# Altium footprint library Artemis_Plus.PcbLib: 25 footprints (part 1 of 2)
Each footprint in its own frame and in the unit in brackets; x right, y up, seen from the top. Pads: shape width x height; smd on the part's side, far side on the other; paste and mask are expansions set on the pad; w line width, h text height; cw(c..) or ccw(c..) is an arc to the next point about the centre after c.
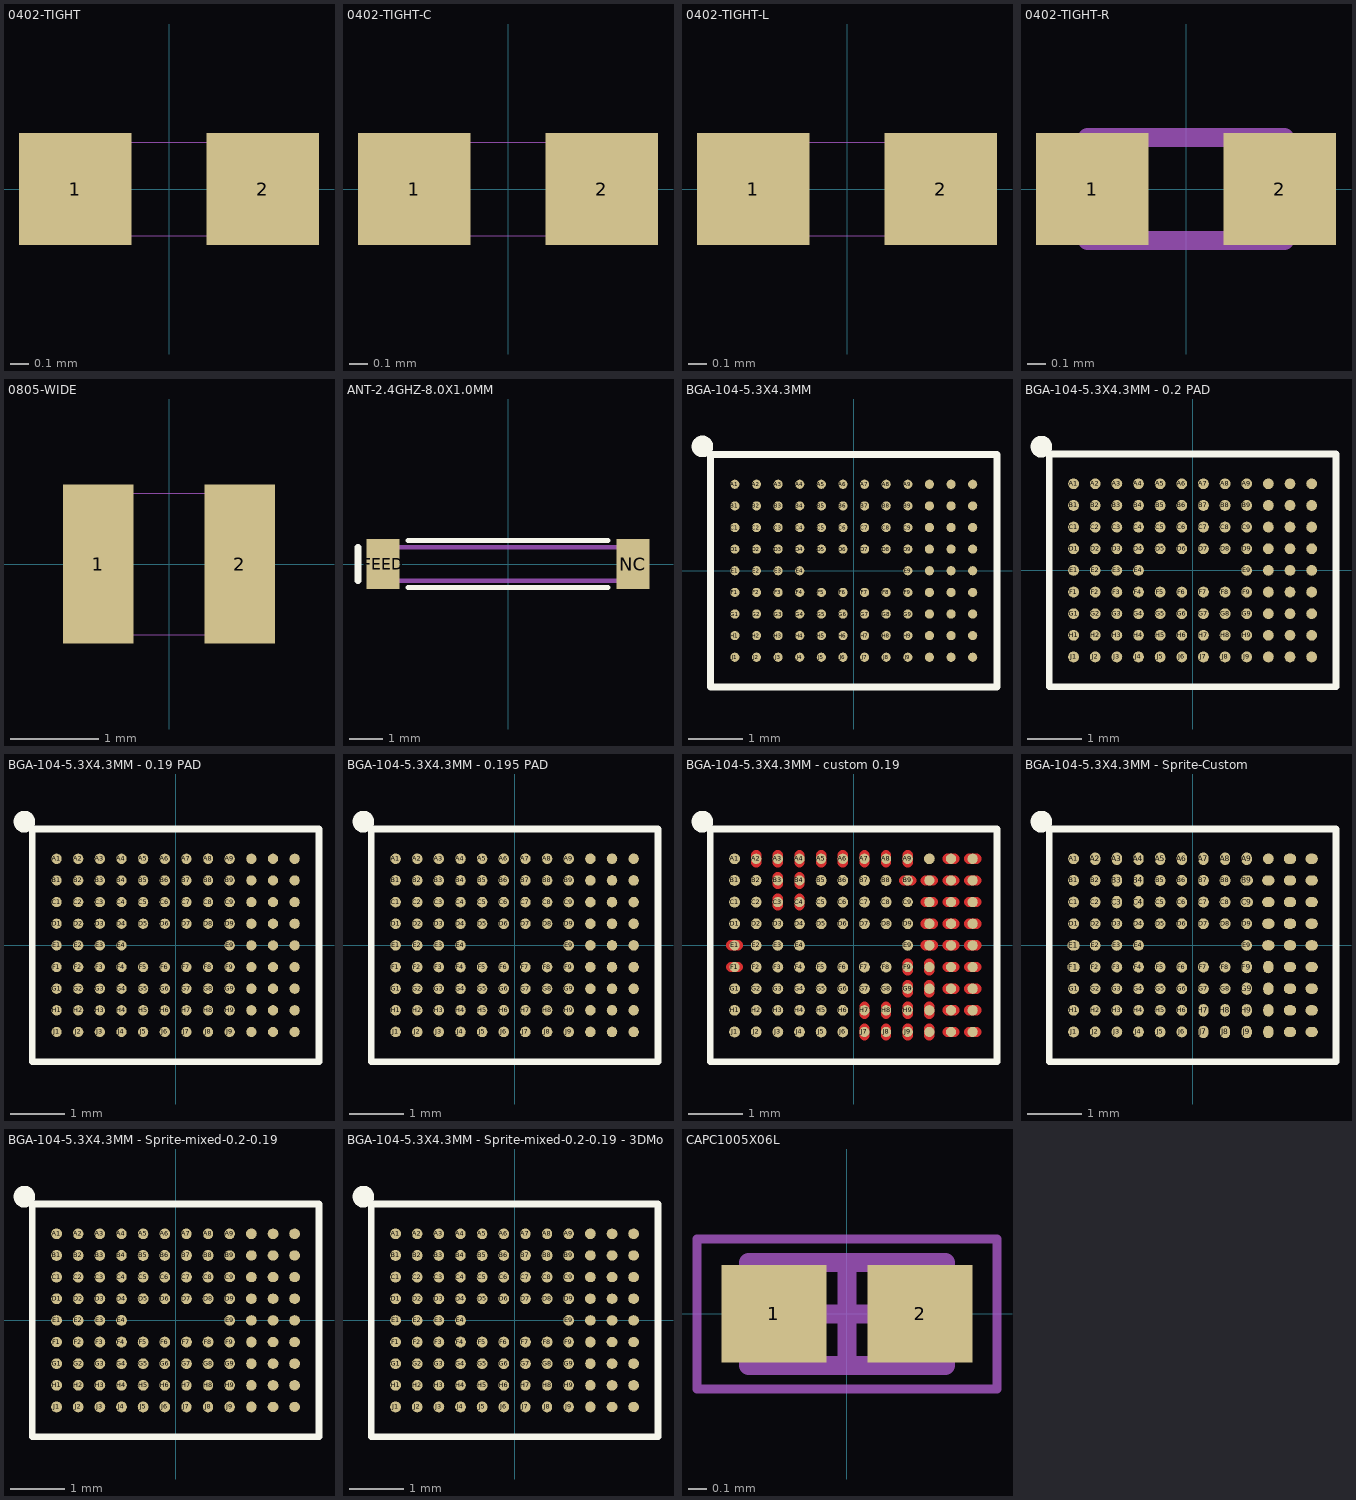
[diagram p0: the footprints below, top view; thin cyan lines are the x and y axes]

## 0402-TIGHT [mm] "0402-TIGHT"
pads (2):
  rect 0.6x0.6 smd: 1(-0.5,0) 2(0.5,0)
Top Component Outline (Mech3):
  region: -0.5,-0.25 -0.5,0.25 -0.3,0.25 -0.3,-0.25
  region: 0.5,0.25 0.5,-0.25 0.3,-0.25 0.3,0.25
  lines w0.003: -0.5,-0.25 -0.5,0.25 0.5,0.25 0.5,-0.25 -0.5,-0.25

## 0402-TIGHT-C [mm] "0402-TIGHT Capacitor"
pads (2):
  rect 0.6x0.6 smd: 1(-0.5,0) 2(0.5,0)
Top Component Outline (Mech3):
  region: -0.5,-0.25 -0.5,0.25 -0.3,0.25 -0.3,-0.25
  region: 0.5,0.25 0.5,-0.25 0.3,-0.25 0.3,0.25
  lines w0.003: -0.5,-0.25 -0.5,0.25 0.5,0.25 0.5,-0.25 -0.5,-0.25
3D body "CAPC1005X06L.step": height 0.6, standoff 0, extent -0.525,-0.275 0.525,0.275

## 0402-TIGHT-L [mm] "0402-TIGHT Inductor"
pads (2):
  rect 0.6x0.6 smd: 1(-0.5,0) 2(0.5,0)
Top Component Outline (Mech3):
  region: 0.5,0.25 0.5,-0.25 0.3,-0.25 0.3,0.25
  region: -0.5,-0.25 -0.5,0.25 -0.3,0.25 -0.3,-0.25
  lines w0.003: -0.5,-0.25 0.5,-0.25 0.5,0.25 -0.5,0.25 -0.5,-0.25
3D body "Ind_Murata_LQG15WZ1N1S02J_eec.STEP": height 0.25, standoff 0, extent -1.036,-0.586 1.036,0.586

## 0402-TIGHT-R [mm] "0402-TIGHT-Resistor model"
pads (2):
  rect 0.6x0.6 smd: 1(-0.5,0) 2(0.5,0)
Top Component Outline (Mech3):
  region: 0.5,0.25 0.5,-0.25 0.3,-0.25 0.3,0.25
  region: -0.5,-0.25 -0.5,0.25 -0.3,0.25 -0.3,-0.25
  lines w0.003: -0.5,-0.25 0.5,-0.25 0.5,0.25 -0.5,0.25 -0.5,-0.25
Top 3D Body (Mech13):
  lines w0.1: -0.525,-0.275 -0.525,0.275 0.525,0.275 0.525,-0.275 -0.525,-0.275
3D body "RESC1005X04L.step": height 0.4, standoff 0, extent -0.525,-0.275 0.525,0.275

## 0805-WIDE [mil] "0805-WIDE"
pads (2):
  rect 31.5x70.87 smd: 1(-31.5,0) 2(31.5,0)
Top Component Outline (Mech3):
  lines w0.1: -39.37,-31.5 -39.37,31.5 39.37,31.5 39.37,-31.5 -39.37,-31.5

## ANT-2.4GHZ-8.0X1.0MM [mm] "ANT-2.4GHZ-8.0X1.0MM"
pads (2):
  rect 1x1.5 smd: FEED(-3.75,0) NC(3.75,0)
Top Overlay:
  lines w0.152: -3,-0.7 3,-0.7 ; -3,0.7 3,0.7
  lines w0.203: -4.5,-0.5 -4.5,0.5
Top Component Outline (Mech3):
  lines w0.127: -4,-0.5 4,-0.5 4,0.5 -4,0.5 -4,-0.5

## BGA-104-5.3X4.3MM [mil] "BGA-104-5.3X4.3MM"
pads (104):
  rrect100% 6.69x6.69 smd mask+1.5: A1(-86.61,62.99) A2(-70.87,62.99) A3(-55.12,62.99) A4(-39.37,62.99) A5(-23.62,62.99) A6(-7.87,62.99) A7(7.87,62.99) A8(23.62,62.99) A9(39.37,62.99) A10(55.12,62.99) A11(70.87,62.99) A12(86.61,62.99) B1(-86.61,47.24) B2(-70.87,47.24) B3(-55.12,47.24) B4(-39.37,47.24) B5(-23.62,47.24) B6(-7.87,47.24) B7(7.87,47.24) B8(23.62,47.24) B9(39.37,47.24) B10(55.12,47.24) B11(70.87,47.24) B12(86.61,47.24) C1(-86.61,31.5) C2(-70.87,31.5) C3(-55.12,31.5) C4(-39.37,31.5) C5(-23.62,31.5) C6(-7.87,31.5) C7(7.87,31.5) C8(23.62,31.5) C9(39.37,31.5) C10(55.12,31.5) C11(70.87,31.5) C12(86.61,31.5) D1(-86.61,15.75) D2(-70.87,15.75) D3(-55.12,15.75) D4(-39.37,15.75) D5(-23.62,15.75) D6(-7.87,15.75) D7(7.87,15.75) D8(23.62,15.75) D9(39.37,15.75) D10(55.12,15.75) D11(70.87,15.75) D12(86.61,15.75) E1(-86.61,0) E2(-70.87,0) E3(-55.12,0) E4(-39.37,0) E9(39.37,0) E10(55.12,0) E11(70.87,0) E12(86.61,0) F1(-86.61,-15.75) F2(-70.87,-15.75) F3(-55.12,-15.75) F4(-39.37,-15.75) F5(-23.62,-15.75) F6(-7.87,-15.75) F7(7.87,-15.75) F8(23.62,-15.75) F9(39.37,-15.75) F10(55.12,-15.75) F11(70.87,-15.75) F12(86.61,-15.75) G1(-86.61,-31.5) G2(-70.87,-31.5) G3(-55.12,-31.5) G4(-39.37,-31.5) G5(-23.62,-31.5) G6(-7.87,-31.5) G7(7.87,-31.5) G8(23.62,-31.5) G9(39.37,-31.5) G10(55.12,-31.5) G11(70.87,-31.5) G12(86.61,-31.5) H1(-86.61,-47.24) H2(-70.87,-47.24) H3(-55.12,-47.24) H4(-39.37,-47.24) H5(-23.62,-47.24) H6(-7.87,-47.24) H7(7.87,-47.24) H8(23.62,-47.24) H9(39.37,-47.24) H10(55.12,-47.24) H11(70.87,-47.24) H12(86.61,-47.24) J1(-86.61,-62.99) J2(-70.87,-62.99) J3(-55.12,-62.99) J4(-39.37,-62.99) J5(-23.62,-62.99) J6(-7.87,-62.99) J7(7.87,-62.99) J8(23.62,-62.99) J9(39.37,-62.99) J10(55.12,-62.99) J11(70.87,-62.99) J12(86.61,-62.99)
Top Overlay:
  circle w7.87: c-110.24,90.55 r3.94
  lines w5: -104.33,-84.65 104.33,-84.65 104.33,84.65 -104.33,84.65 -104.33,-84.65
Top Solder:
  circle w0: c-86.61,-62.99 r4.85
  circle w0: c-86.61,-47.24 r4.85
  circle w0: c-86.61,-31.5 r4.85
  circle w0: c-86.61,-15.75 r4.85
  circle w0: c-86.61,0 r4.85
  circle w0: c-86.61,15.75 r4.85
  circle w0: c-86.61,31.5 r4.85
  circle w0: c-86.61,47.24 r4.85
  circle w0: c-86.61,62.99 r4.85
  circle w0: c86.61,-62.99 r4.85
  circle w0: c86.61,-47.24 r4.85
  circle w0: c86.61,-31.5 r4.85
  circle w0: c86.61,-15.75 r4.85
  circle w0: c86.61,0 r4.85
  circle w0: c86.61,15.75 r4.85
  circle w0: c86.61,31.5 r4.85
  circle w0: c86.61,47.24 r4.85
  circle w0: c86.61,62.99 r4.85
  circle w0: c70.87,-62.99 r4.85
  circle w0: c70.87,-47.24 r4.85
  circle w0: c70.87,-31.5 r4.85
  circle w0: c70.87,-15.75 r4.85
  circle w0: c70.87,0 r4.85
  circle w0: c70.87,15.75 r4.85
  circle w0: c70.87,31.5 r4.85
  circle w0: c70.87,47.24 r4.85
  circle w0: c70.87,62.99 r4.85
  circle w0: c55.12,-62.99 r4.85
  circle w0: c55.12,-47.24 r4.85
  circle w0: c55.12,-31.5 r4.85
  circle w0: c55.12,-15.75 r4.85
  circle w0: c55.12,0 r4.85
  circle w0: c55.12,15.75 r4.85
  circle w0: c55.12,31.5 r4.85
  circle w0: c55.12,47.24 r4.85
  circle w0: c55.12,62.99 r4.85
  circle w0: c39.37,-62.99 r4.85
  circle w0: c39.37,-47.24 r4.85
  circle w0: c39.37,-31.5 r4.85
  circle w0: c39.37,-15.75 r4.85
  circle w0: c39.37,0 r4.85
  circle w0: c39.37,15.75 r4.85
  circle w0: c39.37,31.5 r4.85
  circle w0: c39.37,47.24 r4.85
  circle w0: c39.37,62.99 r4.85
  circle w0: c23.62,-62.99 r4.85
  circle w0: c23.62,-47.24 r4.85
  circle w0: c23.62,-31.5 r4.85
  circle w0: c23.62,-15.75 r4.85
  circle w0: c23.62,15.75 r4.85
  circle w0: c23.62,31.5 r4.85
  circle w0: c23.62,47.24 r4.85
  circle w0: c23.62,62.99 r4.85
  circle w0: c7.87,-62.99 r4.85
  circle w0: c7.87,-47.24 r4.85
  circle w0: c7.87,-31.5 r4.85
  circle w0: c7.87,-15.75 r4.85
  circle w0: c7.87,15.75 r4.85
  circle w0: c7.87,31.5 r4.85
  circle w0: c7.87,47.24 r4.85
  circle w0: c7.87,62.99 r4.85
  circle w0: c-7.87,-62.99 r4.85
  circle w0: c-7.87,-47.24 r4.85
  circle w0: c-7.87,-31.5 r4.85
  circle w0: c-7.87,-15.75 r4.85
  circle w0: c-7.87,15.75 r4.85
  circle w0: c-7.87,31.5 r4.85
  circle w0: c-7.87,47.24 r4.85
  circle w0: c-7.87,62.99 r4.85
  circle w0: c-23.62,-62.99 r4.85
  circle w0: c-23.62,-47.24 r4.85
  circle w0: c-23.62,-31.5 r4.85
  circle w0: c-23.62,-15.75 r4.85
  circle w0: c-23.62,15.75 r4.85
  circle w0: c-23.62,31.5 r4.85
  circle w0: c-23.62,47.24 r4.85
  circle w0: c-23.62,62.99 r4.85
  circle w0: c-39.37,-62.99 r4.85
  circle w0: c-39.37,-47.24 r4.85
  circle w0: c-39.37,-31.5 r4.85
  circle w0: c-39.37,-15.75 r4.85
  circle w0: c-39.37,0 r4.85
  circle w0: c-39.37,15.75 r4.85
  circle w0: c-39.37,31.5 r4.85
  circle w0: c-39.37,47.24 r4.85
  circle w0: c-39.37,62.99 r4.85
  circle w0: c-55.12,-62.99 r4.85
  circle w0: c-55.12,-47.24 r4.85
  circle w0: c-55.12,-31.5 r4.85
  circle w0: c-55.12,-15.75 r4.85
  circle w0: c-55.12,0 r4.85
  circle w0: c-55.12,15.75 r4.85
  circle w0: c-55.12,31.5 r4.85
  circle w0: c-55.12,47.24 r4.85
  circle w0: c-55.12,62.99 r4.85
  circle w0: c-70.87,-62.99 r4.85
  circle w0: c-70.87,-47.24 r4.85
  circle w0: c-70.87,-31.5 r4.85
  circle w0: c-70.87,-15.75 r4.85
  circle w0: c-70.87,0 r4.85
  circle w0: c-70.87,15.75 r4.85
  circle w0: c-70.87,31.5 r4.85
  circle w0: c-70.87,47.24 r4.85
  circle w0: c-70.87,62.99 r4.85

## BGA-104-5.3X4.3MM - 0.2 PAD [mm] "BGA-104-5.3X4.3MM"
pads (104):
  rrect100% 0.2x0.2 smd mask+0.038: A1(-2.2,1.6) A2(-1.8,1.6) A3(-1.4,1.6) A4(-1,1.6) A5(-0.6,1.6) A6(-0.2,1.6) A7(0.2,1.6) A8(0.6,1.6) A9(1,1.6) A10(1.4,1.6) A11(1.8,1.6) A12(2.2,1.6) B1(-2.2,1.2) B2(-1.8,1.2) B3(-1.4,1.2) B4(-1,1.2) B5(-0.6,1.2) B6(-0.2,1.2) B7(0.2,1.2) B8(0.6,1.2) B9(1,1.2) B10(1.4,1.2) B11(1.8,1.2) B12(2.2,1.2) C1(-2.2,0.8) C2(-1.8,0.8) C3(-1.4,0.8) C4(-1,0.8) C5(-0.6,0.8) C6(-0.2,0.8) C7(0.2,0.8) C8(0.6,0.8) C9(1,0.8) C10(1.4,0.8) C11(1.8,0.8) C12(2.2,0.8) D1(-2.2,0.4) D2(-1.8,0.4) D3(-1.4,0.4) D4(-1,0.4) D5(-0.6,0.4) D6(-0.2,0.4) D7(0.2,0.4) D8(0.6,0.4) D9(1,0.4) D10(1.4,0.4) D11(1.8,0.4) D12(2.2,0.4) E1(-2.2,0) E2(-1.8,0) E3(-1.4,0) E4(-1,0) E9(1,0) E10(1.4,0) E11(1.8,0) E12(2.2,0) F1(-2.2,-0.4) F2(-1.8,-0.4) F3(-1.4,-0.4) F4(-1,-0.4) F5(-0.6,-0.4) F6(-0.2,-0.4) F7(0.2,-0.4) F8(0.6,-0.4) F9(1,-0.4) F10(1.4,-0.4) F11(1.8,-0.4) F12(2.2,-0.4) G1(-2.2,-0.8) G2(-1.8,-0.8) G3(-1.4,-0.8) G4(-1,-0.8) G5(-0.6,-0.8) G6(-0.2,-0.8) G7(0.2,-0.8) G8(0.6,-0.8) G9(1,-0.8) G10(1.4,-0.8) G11(1.8,-0.8) G12(2.2,-0.8) H1(-2.2,-1.2) H2(-1.8,-1.2) H3(-1.4,-1.2) H4(-1,-1.2) H5(-0.6,-1.2) H6(-0.2,-1.2) H7(0.2,-1.2) H8(0.6,-1.2) H9(1,-1.2) H10(1.4,-1.2) H11(1.8,-1.2) H12(2.2,-1.2) J1(-2.2,-1.6) J2(-1.8,-1.6) J3(-1.4,-1.6) J4(-1,-1.6) J5(-0.6,-1.6) J6(-0.2,-1.6) J7(0.2,-1.6) J8(0.6,-1.6) J9(1,-1.6) J10(1.4,-1.6) J11(1.8,-1.6) J12(2.2,-1.6)
Top Overlay:
  circle w0.2: c-2.794,2.286 r0.1
  lines w0.127: -2.65,-2.15 2.65,-2.15 2.65,2.15 -2.65,2.15 -2.65,-2.15
Top Solder:
  circle w0: c-2.2,-1.6 r0.123
  circle w0: c-2.2,-1.2 r0.123
  circle w0: c-2.2,-0.8 r0.123
  circle w0: c-2.2,-0.4 r0.123
  circle w0: c-2.2,0 r0.123
  circle w0: c-2.2,0.4 r0.123
  circle w0: c-2.2,0.8 r0.123
  circle w0: c-2.2,1.2 r0.123
  circle w0: c-2.2,1.6 r0.123
  circle w0: c2.2,-1.6 r0.123
  circle w0: c2.2,-1.2 r0.123
  circle w0: c2.2,-0.8 r0.123
  circle w0: c2.2,-0.4 r0.123
  circle w0: c2.2,0 r0.123
  circle w0: c2.2,0.4 r0.123
  circle w0: c2.2,0.8 r0.123
  circle w0: c2.2,1.2 r0.123
  circle w0: c2.2,1.6 r0.123
  circle w0: c1.8,-1.6 r0.123
  circle w0: c1.8,-1.2 r0.123
  circle w0: c1.8,-0.8 r0.123
  circle w0: c1.8,-0.4 r0.123
  circle w0: c1.8,0 r0.123
  circle w0: c1.8,0.4 r0.123
  circle w0: c1.8,0.8 r0.123
  circle w0: c1.8,1.2 r0.123
  circle w0: c1.8,1.6 r0.123
  circle w0: c1.4,-1.6 r0.123
  circle w0: c1.4,-1.2 r0.123
  circle w0: c1.4,-0.8 r0.123
  circle w0: c1.4,-0.4 r0.123
  circle w0: c1.4,0 r0.123
  circle w0: c1.4,0.4 r0.123
  circle w0: c1.4,0.8 r0.123
  circle w0: c1.4,1.2 r0.123
  circle w0: c1.4,1.6 r0.123
  circle w0: c1,-1.6 r0.123
  circle w0: c1,-1.2 r0.123
  circle w0: c1,-0.8 r0.123
  circle w0: c1,-0.4 r0.123
  circle w0: c1,0 r0.123
  circle w0: c1,0.4 r0.123
  circle w0: c1,0.8 r0.123
  circle w0: c1,1.2 r0.123
  circle w0: c1,1.6 r0.123
  circle w0: c0.6,-1.6 r0.123
  circle w0: c0.6,-1.2 r0.123
  circle w0: c0.6,-0.8 r0.123
  circle w0: c0.6,-0.4 r0.123
  circle w0: c0.6,0.4 r0.123
  circle w0: c0.6,0.8 r0.123
  circle w0: c0.6,1.2 r0.123
  circle w0: c0.6,1.6 r0.123
  circle w0: c0.2,-1.6 r0.123
  circle w0: c0.2,-1.2 r0.123
  circle w0: c0.2,-0.8 r0.123
  circle w0: c0.2,-0.4 r0.123
  circle w0: c0.2,0.4 r0.123
  circle w0: c0.2,0.8 r0.123
  circle w0: c0.2,1.2 r0.123
  circle w0: c0.2,1.6 r0.123
  circle w0: c-0.2,-1.6 r0.123
  circle w0: c-0.2,-1.2 r0.123
  circle w0: c-0.2,-0.8 r0.123
  circle w0: c-0.2,-0.4 r0.123
  circle w0: c-0.2,0.4 r0.123
  circle w0: c-0.2,0.8 r0.123
  circle w0: c-0.2,1.2 r0.123
  circle w0: c-0.2,1.6 r0.123
  circle w0: c-0.6,-1.6 r0.123
  circle w0: c-0.6,-1.2 r0.123
  circle w0: c-0.6,-0.8 r0.123
  circle w0: c-0.6,-0.4 r0.123
  circle w0: c-0.6,0.4 r0.123
  circle w0: c-0.6,0.8 r0.123
  circle w0: c-0.6,1.2 r0.123
  circle w0: c-0.6,1.6 r0.123
  circle w0: c-1,-1.6 r0.123
  circle w0: c-1,-1.2 r0.123
  circle w0: c-1,-0.8 r0.123
  circle w0: c-1,-0.4 r0.123
  circle w0: c-1,0 r0.123
  circle w0: c-1,0.4 r0.123
  circle w0: c-1,0.8 r0.123
  circle w0: c-1,1.2 r0.123
  circle w0: c-1,1.6 r0.123
  circle w0: c-1.4,-1.6 r0.123
  circle w0: c-1.4,-1.2 r0.123
  circle w0: c-1.4,-0.8 r0.123
  circle w0: c-1.4,-0.4 r0.123
  circle w0: c-1.4,0 r0.123
  circle w0: c-1.4,0.4 r0.123
  circle w0: c-1.4,0.8 r0.123
  circle w0: c-1.4,1.2 r0.123
  circle w0: c-1.4,1.6 r0.123
  circle w0: c-1.8,-1.6 r0.123
  circle w0: c-1.8,-1.2 r0.123
  circle w0: c-1.8,-0.8 r0.123
  circle w0: c-1.8,-0.4 r0.123
  circle w0: c-1.8,0 r0.123
  circle w0: c-1.8,0.4 r0.123
  circle w0: c-1.8,0.8 r0.123
  circle w0: c-1.8,1.2 r0.123
  circle w0: c-1.8,1.6 r0.123

## BGA-104-5.3X4.3MM - 0.19 PAD [mm] "BGA-104-5.3X4.3MM"
pads (104):
  rrect100% 0.19x0.19 smd mask+0.038: A1(-2.2,1.6) A2(-1.8,1.6) A3(-1.4,1.6) A4(-1,1.6) A5(-0.6,1.6) A6(-0.2,1.6) A7(0.2,1.6) A8(0.6,1.6) A9(1,1.6) A10(1.4,1.6) A11(1.8,1.6) A12(2.2,1.6) B1(-2.2,1.2) B2(-1.8,1.2) B3(-1.4,1.2) B4(-1,1.2) B5(-0.6,1.2) B6(-0.2,1.2) B7(0.2,1.2) B8(0.6,1.2) B9(1,1.2) B10(1.4,1.2) B11(1.8,1.2) B12(2.2,1.2) C1(-2.2,0.8) C2(-1.8,0.8) C3(-1.4,0.8) C4(-1,0.8) C5(-0.6,0.8) C6(-0.2,0.8) C7(0.2,0.8) C8(0.6,0.8) C9(1,0.8) C10(1.4,0.8) C11(1.8,0.8) C12(2.2,0.8) D1(-2.2,0.4) D2(-1.8,0.4) D3(-1.4,0.4) D4(-1,0.4) D5(-0.6,0.4) D6(-0.2,0.4) D7(0.2,0.4) D8(0.6,0.4) D9(1,0.4) D10(1.4,0.4) D11(1.8,0.4) D12(2.2,0.4) E1(-2.2,0) E2(-1.8,0) E3(-1.4,0) E4(-1,0) E9(1,0) E10(1.4,0) E11(1.8,0) E12(2.2,0) F1(-2.2,-0.4) F2(-1.8,-0.4) F3(-1.4,-0.4) F4(-1,-0.4) F5(-0.6,-0.4) F6(-0.2,-0.4) F7(0.2,-0.4) F8(0.6,-0.4) F9(1,-0.4) F10(1.4,-0.4) F11(1.8,-0.4) F12(2.2,-0.4) G1(-2.2,-0.8) G2(-1.8,-0.8) G3(-1.4,-0.8) G4(-1,-0.8) G5(-0.6,-0.8) G6(-0.2,-0.8) G7(0.2,-0.8) G8(0.6,-0.8) G9(1,-0.8) G10(1.4,-0.8) G11(1.8,-0.8) G12(2.2,-0.8) H1(-2.2,-1.2) H2(-1.8,-1.2) H3(-1.4,-1.2) H4(-1,-1.2) H5(-0.6,-1.2) H6(-0.2,-1.2) H7(0.2,-1.2) H8(0.6,-1.2) H9(1,-1.2) H10(1.4,-1.2) H11(1.8,-1.2) H12(2.2,-1.2) J1(-2.2,-1.6) J2(-1.8,-1.6) J3(-1.4,-1.6) J4(-1,-1.6) J5(-0.6,-1.6) J6(-0.2,-1.6) J7(0.2,-1.6) J8(0.6,-1.6) J9(1,-1.6) J10(1.4,-1.6) J11(1.8,-1.6) J12(2.2,-1.6)
Top Overlay:
  circle w0.2: c-2.794,2.286 r0.1
  lines w0.127: -2.65,-2.15 2.65,-2.15 2.65,2.15 -2.65,2.15 -2.65,-2.15
Top Solder:
  circle w0: c-2.2,-1.6 r0.123
  circle w0: c-2.2,-1.2 r0.123
  circle w0: c-2.2,-0.8 r0.123
  circle w0: c-2.2,-0.4 r0.123
  circle w0: c-2.2,0 r0.123
  circle w0: c-2.2,0.4 r0.123
  circle w0: c-2.2,0.8 r0.123
  circle w0: c-2.2,1.2 r0.123
  circle w0: c-2.2,1.6 r0.123
  circle w0: c2.2,-1.6 r0.123
  circle w0: c2.2,-1.2 r0.123
  circle w0: c2.2,-0.8 r0.123
  circle w0: c2.2,-0.4 r0.123
  circle w0: c2.2,0 r0.123
  circle w0: c2.2,0.4 r0.123
  circle w0: c2.2,0.8 r0.123
  circle w0: c2.2,1.2 r0.123
  circle w0: c2.2,1.6 r0.123
  circle w0: c1.8,-1.6 r0.123
  circle w0: c1.8,-1.2 r0.123
  circle w0: c1.8,-0.8 r0.123
  circle w0: c1.8,-0.4 r0.123
  circle w0: c1.8,0 r0.123
  circle w0: c1.8,0.4 r0.123
  circle w0: c1.8,0.8 r0.123
  circle w0: c1.8,1.2 r0.123
  circle w0: c1.8,1.6 r0.123
  circle w0: c1.4,-1.6 r0.123
  circle w0: c1.4,-1.2 r0.123
  circle w0: c1.4,-0.8 r0.123
  circle w0: c1.4,-0.4 r0.123
  circle w0: c1.4,0 r0.123
  circle w0: c1.4,0.4 r0.123
  circle w0: c1.4,0.8 r0.123
  circle w0: c1.4,1.2 r0.123
  circle w0: c1.4,1.6 r0.123
  circle w0: c1,-1.6 r0.123
  circle w0: c1,-1.2 r0.123
  circle w0: c1,-0.8 r0.123
  circle w0: c1,-0.4 r0.123
  circle w0: c1,0 r0.123
  circle w0: c1,0.4 r0.123
  circle w0: c1,0.8 r0.123
  circle w0: c1,1.2 r0.123
  circle w0: c1,1.6 r0.123
  circle w0: c0.6,-1.6 r0.123
  circle w0: c0.6,-1.2 r0.123
  circle w0: c0.6,-0.8 r0.123
  circle w0: c0.6,-0.4 r0.123
  circle w0: c0.6,0.4 r0.123
  circle w0: c0.6,0.8 r0.123
  circle w0: c0.6,1.2 r0.123
  circle w0: c0.6,1.6 r0.123
  circle w0: c0.2,-1.6 r0.123
  circle w0: c0.2,-1.2 r0.123
  circle w0: c0.2,-0.8 r0.123
  circle w0: c0.2,-0.4 r0.123
  circle w0: c0.2,0.4 r0.123
  circle w0: c0.2,0.8 r0.123
  circle w0: c0.2,1.2 r0.123
  circle w0: c0.2,1.6 r0.123
  circle w0: c-0.2,-1.6 r0.123
  circle w0: c-0.2,-1.2 r0.123
  circle w0: c-0.2,-0.8 r0.123
  circle w0: c-0.2,-0.4 r0.123
  circle w0: c-0.2,0.4 r0.123
  circle w0: c-0.2,0.8 r0.123
  circle w0: c-0.2,1.2 r0.123
  circle w0: c-0.2,1.6 r0.123
  circle w0: c-0.6,-1.6 r0.123
  circle w0: c-0.6,-1.2 r0.123
  circle w0: c-0.6,-0.8 r0.123
  circle w0: c-0.6,-0.4 r0.123
  circle w0: c-0.6,0.4 r0.123
  circle w0: c-0.6,0.8 r0.123
  circle w0: c-0.6,1.2 r0.123
  circle w0: c-0.6,1.6 r0.123
  circle w0: c-1,-1.6 r0.123
  circle w0: c-1,-1.2 r0.123
  circle w0: c-1,-0.8 r0.123
  circle w0: c-1,-0.4 r0.123
  circle w0: c-1,0 r0.123
  circle w0: c-1,0.4 r0.123
  circle w0: c-1,0.8 r0.123
  circle w0: c-1,1.2 r0.123
  circle w0: c-1,1.6 r0.123
  circle w0: c-1.4,-1.6 r0.123
  circle w0: c-1.4,-1.2 r0.123
  circle w0: c-1.4,-0.8 r0.123
  circle w0: c-1.4,-0.4 r0.123
  circle w0: c-1.4,0 r0.123
  circle w0: c-1.4,0.4 r0.123
  circle w0: c-1.4,0.8 r0.123
  circle w0: c-1.4,1.2 r0.123
  circle w0: c-1.4,1.6 r0.123
  circle w0: c-1.8,-1.6 r0.123
  circle w0: c-1.8,-1.2 r0.123
  circle w0: c-1.8,-0.8 r0.123
  circle w0: c-1.8,-0.4 r0.123
  circle w0: c-1.8,0 r0.123
  circle w0: c-1.8,0.4 r0.123
  circle w0: c-1.8,0.8 r0.123
  circle w0: c-1.8,1.2 r0.123
  circle w0: c-1.8,1.6 r0.123

## BGA-104-5.3X4.3MM - 0.195 PAD [mm] "BGA-104-5.3X4.3MM"
pads (104):
  rrect100% 0.195x0.195 smd mask+0.038: A1(-2.2,1.6) A2(-1.8,1.6) A3(-1.4,1.6) A4(-1,1.6) A5(-0.6,1.6) A6(-0.2,1.6) A7(0.2,1.6) A8(0.6,1.6) A9(1,1.6) A10(1.4,1.6) A11(1.8,1.6) A12(2.2,1.6) B1(-2.2,1.2) B2(-1.8,1.2) B3(-1.4,1.2) B4(-1,1.2) B5(-0.6,1.2) B6(-0.2,1.2) B7(0.2,1.2) B8(0.6,1.2) B9(1,1.2) B10(1.4,1.2) B11(1.8,1.2) B12(2.2,1.2) C1(-2.2,0.8) C2(-1.8,0.8) C3(-1.4,0.8) C4(-1,0.8) C5(-0.6,0.8) C6(-0.2,0.8) C7(0.2,0.8) C8(0.6,0.8) C9(1,0.8) C10(1.4,0.8) C11(1.8,0.8) C12(2.2,0.8) D1(-2.2,0.4) D2(-1.8,0.4) D3(-1.4,0.4) D4(-1,0.4) D5(-0.6,0.4) D6(-0.2,0.4) D7(0.2,0.4) D8(0.6,0.4) D9(1,0.4) D10(1.4,0.4) D11(1.8,0.4) D12(2.2,0.4) E1(-2.2,0) E2(-1.8,0) E3(-1.4,0) E4(-1,0) E9(1,0) E10(1.4,0) E11(1.8,0) E12(2.2,0) F1(-2.2,-0.4) F2(-1.8,-0.4) F3(-1.4,-0.4) F4(-1,-0.4) F5(-0.6,-0.4) F6(-0.2,-0.4) F7(0.2,-0.4) F8(0.6,-0.4) F9(1,-0.4) F10(1.4,-0.4) F11(1.8,-0.4) F12(2.2,-0.4) G1(-2.2,-0.8) G2(-1.8,-0.8) G3(-1.4,-0.8) G4(-1,-0.8) G5(-0.6,-0.8) G6(-0.2,-0.8) G7(0.2,-0.8) G8(0.6,-0.8) G9(1,-0.8) G10(1.4,-0.8) G11(1.8,-0.8) G12(2.2,-0.8) H1(-2.2,-1.2) H2(-1.8,-1.2) H3(-1.4,-1.2) H4(-1,-1.2) H5(-0.6,-1.2) H6(-0.2,-1.2) H7(0.2,-1.2) H8(0.6,-1.2) H9(1,-1.2) H10(1.4,-1.2) H11(1.8,-1.2) H12(2.2,-1.2) J1(-2.2,-1.6) J2(-1.8,-1.6) J3(-1.4,-1.6) J4(-1,-1.6) J5(-0.6,-1.6) J6(-0.2,-1.6) J7(0.2,-1.6) J8(0.6,-1.6) J9(1,-1.6) J10(1.4,-1.6) J11(1.8,-1.6) J12(2.2,-1.6)
Top Overlay:
  circle w0.2: c-2.794,2.286 r0.1
  lines w0.127: -2.65,-2.15 -2.65,2.15 2.65,2.15 2.65,-2.15 -2.65,-2.15
Top Solder:
  circle w0: c-1.8,1.6 r0.123
  circle w0: c-1.8,1.2 r0.123
  circle w0: c-1.8,0.8 r0.123
  circle w0: c-1.8,0.4 r0.123
  circle w0: c-1.8,0 r0.123
  circle w0: c-1.8,-0.4 r0.123
  circle w0: c-1.8,-0.8 r0.123
  circle w0: c-1.8,-1.2 r0.123
  circle w0: c-1.8,-1.6 r0.123
  circle w0: c-1.4,1.6 r0.123
  circle w0: c-1.4,1.2 r0.123
  circle w0: c-1.4,0.8 r0.123
  circle w0: c-1.4,0.4 r0.123
  circle w0: c-1.4,0 r0.123
  circle w0: c-1.4,-0.4 r0.123
  circle w0: c-1.4,-0.8 r0.123
  circle w0: c-1.4,-1.2 r0.123
  circle w0: c-1.4,-1.6 r0.123
  circle w0: c-1,1.6 r0.123
  circle w0: c-1,1.2 r0.123
  circle w0: c-1,0.8 r0.123
  circle w0: c-1,0.4 r0.123
  circle w0: c-1,0 r0.123
  circle w0: c-1,-0.4 r0.123
  circle w0: c-1,-0.8 r0.123
  circle w0: c-1,-1.2 r0.123
  circle w0: c-1,-1.6 r0.123
  circle w0: c-0.6,1.6 r0.123
  circle w0: c-0.6,1.2 r0.123
  circle w0: c-0.6,0.8 r0.123
  circle w0: c-0.6,0.4 r0.123
  circle w0: c-0.6,-0.4 r0.123
  circle w0: c-0.6,-0.8 r0.123
  circle w0: c-0.6,-1.2 r0.123
  circle w0: c-0.6,-1.6 r0.123
  circle w0: c-0.2,1.6 r0.123
  circle w0: c-0.2,1.2 r0.123
  circle w0: c-0.2,0.8 r0.123
  circle w0: c-0.2,0.4 r0.123
  circle w0: c-0.2,-0.4 r0.123
  circle w0: c-0.2,-0.8 r0.123
  circle w0: c-0.2,-1.2 r0.123
  circle w0: c-0.2,-1.6 r0.123
  circle w0: c0.2,1.6 r0.123
  circle w0: c0.2,1.2 r0.123
  circle w0: c0.2,0.8 r0.123
  circle w0: c0.2,0.4 r0.123
  circle w0: c0.2,-0.4 r0.123
  circle w0: c0.2,-0.8 r0.123
  circle w0: c0.2,-1.2 r0.123
  circle w0: c0.2,-1.6 r0.123
  circle w0: c0.6,1.6 r0.123
  circle w0: c0.6,1.2 r0.123
  circle w0: c0.6,0.8 r0.123
  circle w0: c0.6,0.4 r0.123
  circle w0: c0.6,-0.4 r0.123
  circle w0: c0.6,-0.8 r0.123
  circle w0: c0.6,-1.2 r0.123
  circle w0: c0.6,-1.6 r0.123
  circle w0: c1,1.6 r0.123
  circle w0: c1,1.2 r0.123
  circle w0: c1,0.8 r0.123
  circle w0: c1,0.4 r0.123
  circle w0: c1,0 r0.123
  circle w0: c1,-0.4 r0.123
  circle w0: c1,-0.8 r0.123
  circle w0: c1,-1.2 r0.123
  circle w0: c1,-1.6 r0.123
  circle w0: c1.4,1.6 r0.123
  circle w0: c1.4,1.2 r0.123
  circle w0: c1.4,0.8 r0.123
  circle w0: c1.4,0.4 r0.123
  circle w0: c1.4,0 r0.123
  circle w0: c1.4,-0.4 r0.123
  circle w0: c1.4,-0.8 r0.123
  circle w0: c1.4,-1.2 r0.123
  circle w0: c1.4,-1.6 r0.123
  circle w0: c1.8,1.6 r0.123
  circle w0: c1.8,1.2 r0.123
  circle w0: c1.8,0.8 r0.123
  circle w0: c1.8,0.4 r0.123
  circle w0: c1.8,0 r0.123
  circle w0: c1.8,-0.4 r0.123
  circle w0: c1.8,-0.8 r0.123
  circle w0: c1.8,-1.2 r0.123
  circle w0: c1.8,-1.6 r0.123
  circle w0: c2.2,1.6 r0.123
  circle w0: c2.2,1.2 r0.123
  circle w0: c2.2,0.8 r0.123
  circle w0: c2.2,0.4 r0.123
  circle w0: c2.2,0 r0.123
  circle w0: c2.2,-0.4 r0.123
  circle w0: c2.2,-0.8 r0.123
  circle w0: c2.2,-1.2 r0.123
  circle w0: c2.2,-1.6 r0.123
  circle w0: c-2.2,1.6 r0.123
  circle w0: c-2.2,1.2 r0.123
  circle w0: c-2.2,0.8 r0.123
  circle w0: c-2.2,0.4 r0.123
  circle w0: c-2.2,0 r0.123
  circle w0: c-2.2,-0.4 r0.123
  circle w0: c-2.2,-0.8 r0.123
  circle w0: c-2.2,-1.2 r0.123
  circle w0: c-2.2,-1.6 r0.123

## BGA-104-5.3X4.3MM - custom 0.19 [mm] "BGA-104-5.3X4.3MM"
pads (104):
  rrect100% 0.2x0.2 smd mask+0.038: A1(-2.2,1.6) A10(1.4,1.6) B1(-2.2,1.2) B2(-1.8,1.2) B5(-0.6,1.2) B6(-0.2,1.2) B7(0.2,1.2) B8(0.6,1.2) C1(-2.2,0.8) C2(-1.8,0.8) C5(-0.6,0.8) C6(-0.2,0.8) C7(0.2,0.8) C8(0.6,0.8) D1(-2.2,0.4) D2(-1.8,0.4) D3(-1.4,0.4) D4(-1,0.4) D5(-0.6,0.4) D6(-0.2,0.4) D7(0.2,0.4) D8(0.6,0.4) D9(1,0.4) E2(-1.8,0) E3(-1.4,0) E4(-1,0) E9(1,0) F2(-1.8,-0.4) F3(-1.4,-0.4) F4(-1,-0.4) F5(-0.6,-0.4) F6(-0.2,-0.4) F7(0.2,-0.4) F8(0.6,-0.4) G1(-2.2,-0.8) G2(-1.8,-0.8) G3(-1.4,-0.8) G4(-1,-0.8) G5(-0.6,-0.8) G6(-0.2,-0.8) G7(0.2,-0.8) G8(0.6,-0.8) H1(-2.2,-1.2) H2(-1.8,-1.2) H3(-1.4,-1.2) H4(-1,-1.2) H5(-0.6,-1.2) H6(-0.2,-1.2) J1(-2.2,-1.6) J2(-1.8,-1.6) J3(-1.4,-1.6) J4(-1,-1.6) J5(-0.6,-1.6) J6(-0.2,-1.6)
  rrect100% 0.19x0.19 smd mask+0.038: A2(-1.8,1.6) A3(-1.4,1.6) A4(-1,1.6) A5(-0.6,1.6) A6(-0.2,1.6) A7(0.2,1.6) A8(0.6,1.6) A9(1,1.6) A11(1.8,1.6) A12(2.2,1.6) B3(-1.4,1.2) B4(-1,1.2) B9(1,1.2) B10(1.4,1.2) B11(1.8,1.2) B12(2.2,1.2) C3(-1.4,0.8) C4(-1,0.8) C9(1,0.8) C10(1.4,0.8) C11(1.8,0.8) C12(2.2,0.8) D10(1.4,0.4) D11(1.8,0.4) D12(2.2,0.4) E1(-2.2,0) E10(1.4,0) E11(1.8,0) E12(2.2,0) F1(-2.2,-0.4) F9(1,-0.4) F10(1.4,-0.4) F11(1.8,-0.4) F12(2.2,-0.4) G9(1,-0.8) G10(1.4,-0.8) G11(1.8,-0.8) G12(2.2,-0.8) H7(0.2,-1.2) H8(0.6,-1.2) H9(1,-1.2) H10(1.4,-1.2) H11(1.8,-1.2) H12(2.2,-1.2) J7(0.2,-1.6) J8(0.6,-1.6) J9(1,-1.6) J10(1.4,-1.6) J11(1.8,-1.6) J12(2.2,-1.6)
Top Layer:
  lines w0.19: -2.265,-0.4 -2.135,-0.4 ; -2.265,0 -2.135,0 ; -1.8,1.535 -1.8,1.665 ; -1.4,0.735 -1.4,0.865 ; -1.4,1.135 -1.4,1.265 ; -1.4,1.535 -1.4,1.665 ; -1,0.735 -1,0.865 ; -1,1.135 -1,1.265 ; -1,1.535 -1,1.665 ; -0.6,1.535 -0.6,1.665 ; -0.2,1.535 -0.2,1.665 ; 0.2,-1.665 0.2,-1.535 ; 0.2,-1.265 0.2,-1.135 ; 0.2,1.535 0.2,1.665 ; 0.6,-1.665 0.6,-1.535 ; 0.6,-1.265 0.6,-1.135 ; 0.6,1.535 0.6,1.665 ; 0.935,1.2 1.065,1.2 ; 1,-1.665 1,-1.535 ; 1,-1.265 1,-1.135 ; 1,-0.865 1,-0.735 ; 1,-0.465 1,-0.335 ; 1,1.535 1,1.665 ; 1.335,0 1.465,0 ; 1.335,0.4 1.465,0.4 ; 1.335,0.8 1.465,0.8 ; 1.335,1.2 1.465,1.2 ; 1.4,-1.665 1.4,-1.535 ; 1.4,-1.265 1.4,-1.135 ; 1.4,-0.865 1.4,-0.735 ; 1.4,-0.465 1.4,-0.335 ; 1.735,-1.6 1.865,-1.6 ; 1.735,-1.2 1.865,-1.2 ; 1.735,-0.8 1.865,-0.8 ; 1.735,-0.4 1.865,-0.4 ; 1.735,0 1.865,0 ; 1.735,0.4 1.865,0.4 ; 1.735,0.8 1.865,0.8 ; 1.735,1.2 1.865,1.2 ; 1.735,1.6 1.865,1.6 ; 2.135,-1.6 2.265,-1.6 ; 2.135,-1.2 2.265,-1.2 ; 2.135,-0.8 2.265,-0.8 ; 2.135,-0.4 2.265,-0.4 ; 2.135,0 2.265,0 ; 2.135,0.4 2.265,0.4 ; 2.135,0.8 2.265,0.8 ; 2.135,1.2 2.265,1.2 ; 2.135,1.6 2.265,1.6
Top Overlay:
  circle w0.2: c-2.794,2.286 r0.1
  lines w0.127: -2.65,-2.15 -2.65,2.15 2.65,2.15 2.65,-2.15 -2.65,-2.15
Top Solder:
  circle w0: c-1.8,1.6 r0.123
  circle w0: c-1.8,1.2 r0.123
  circle w0: c-1.8,0.8 r0.123
  circle w0: c-1.8,0.4 r0.123
  circle w0: c-1.8,0 r0.123
  circle w0: c-1.8,-0.4 r0.123
  circle w0: c-1.8,-0.8 r0.123
  circle w0: c-1.8,-1.2 r0.123
  circle w0: c-1.8,-1.6 r0.123
  circle w0: c-1.4,1.6 r0.123
  circle w0: c-1.4,1.2 r0.123
  circle w0: c-1.4,0.8 r0.123
  circle w0: c-1.4,0.4 r0.123
  circle w0: c-1.4,0 r0.123
  circle w0: c-1.4,-0.4 r0.123
  circle w0: c-1.4,-0.8 r0.123
  circle w0: c-1.4,-1.2 r0.123
  circle w0: c-1.4,-1.6 r0.123
  circle w0: c-1,1.6 r0.123
  circle w0: c-1,1.2 r0.123
  circle w0: c-1,0.8 r0.123
  circle w0: c-1,0.4 r0.123
  circle w0: c-1,0 r0.123
  circle w0: c-1,-0.4 r0.123
  circle w0: c-1,-0.8 r0.123
  circle w0: c-1,-1.2 r0.123
  circle w0: c-1,-1.6 r0.123
  circle w0: c-0.6,1.6 r0.123
  circle w0: c-0.6,1.2 r0.123
  circle w0: c-0.6,0.8 r0.123
  circle w0: c-0.6,0.4 r0.123
  circle w0: c-0.6,-0.4 r0.123
  circle w0: c-0.6,-0.8 r0.123
  circle w0: c-0.6,-1.2 r0.123
  circle w0: c-0.6,-1.6 r0.123
  circle w0: c-0.2,1.6 r0.123
  circle w0: c-0.2,1.2 r0.123
  circle w0: c-0.2,0.8 r0.123
  circle w0: c-0.2,0.4 r0.123
  circle w0: c-0.2,-0.4 r0.123
  circle w0: c-0.2,-0.8 r0.123
  circle w0: c-0.2,-1.2 r0.123
  circle w0: c-0.2,-1.6 r0.123
  circle w0: c0.2,1.6 r0.123
  circle w0: c0.2,1.2 r0.123
  circle w0: c0.2,0.8 r0.123
  circle w0: c0.2,0.4 r0.123
  circle w0: c0.2,-0.4 r0.123
  circle w0: c0.2,-0.8 r0.123
  circle w0: c0.2,-1.2 r0.123
  circle w0: c0.2,-1.6 r0.123
  circle w0: c0.6,1.6 r0.123
  circle w0: c0.6,1.2 r0.123
  circle w0: c0.6,0.8 r0.123
  circle w0: c0.6,0.4 r0.123
  circle w0: c0.6,-0.4 r0.123
  circle w0: c0.6,-0.8 r0.123
  circle w0: c0.6,-1.2 r0.123
  circle w0: c0.6,-1.6 r0.123
  circle w0: c1,1.6 r0.123
  circle w0: c1,1.2 r0.123
  circle w0: c1,0.8 r0.123
  circle w0: c1,0.4 r0.123
  circle w0: c1,0 r0.123
  circle w0: c1,-0.4 r0.123
  circle w0: c1,-0.8 r0.123
  circle w0: c1,-1.2 r0.123
  circle w0: c1,-1.6 r0.123
  circle w0: c1.4,1.6 r0.123
  circle w0: c1.4,1.2 r0.123
  circle w0: c1.4,0.8 r0.123
  circle w0: c1.4,0.4 r0.123
  circle w0: c1.4,0 r0.123
  circle w0: c1.4,-0.4 r0.123
  circle w0: c1.4,-0.8 r0.123
  circle w0: c1.4,-1.2 r0.123
  circle w0: c1.4,-1.6 r0.123
  circle w0: c1.8,1.6 r0.123
  circle w0: c1.8,1.2 r0.123
  circle w0: c1.8,0.8 r0.123
  circle w0: c1.8,0.4 r0.123
  circle w0: c1.8,0 r0.123
  circle w0: c1.8,-0.4 r0.123
  circle w0: c1.8,-0.8 r0.123
  circle w0: c1.8,-1.2 r0.123
  circle w0: c1.8,-1.6 r0.123
  circle w0: c2.2,1.6 r0.123
  circle w0: c2.2,1.2 r0.123
  circle w0: c2.2,0.8 r0.123
  circle w0: c2.2,0.4 r0.123
  circle w0: c2.2,0 r0.123
  circle w0: c2.2,-0.4 r0.123
  circle w0: c2.2,-0.8 r0.123
  circle w0: c2.2,-1.2 r0.123
  circle w0: c2.2,-1.6 r0.123
  circle w0: c-2.2,1.6 r0.123
  circle w0: c-2.2,1.2 r0.123
  circle w0: c-2.2,0.8 r0.123
  circle w0: c-2.2,0.4 r0.123
  circle w0: c-2.2,0 r0.123
  circle w0: c-2.2,-0.4 r0.123
  circle w0: c-2.2,-0.8 r0.123
  circle w0: c-2.2,-1.2 r0.123
  circle w0: c-2.2,-1.6 r0.123

## BGA-104-5.3X4.3MM - Sprite-Custom [mm] "BGA-104-5.3X4.3MM"
pads (104):
  rrect100% 0.2x0.2 smd mask+0.038: A1(-2.2,1.6) A10(1.4,1.6) B1(-2.2,1.2) B2(-1.8,1.2) B5(-0.6,1.2) B6(-0.2,1.2) B7(0.2,1.2) B8(0.6,1.2) C1(-2.2,0.8) C2(-1.8,0.8) C5(-0.6,0.8) C6(-0.2,0.8) C7(0.2,0.8) C8(0.6,0.8) D1(-2.2,0.4) D2(-1.8,0.4) D3(-1.4,0.4) D4(-1,0.4) D5(-0.6,0.4) D6(-0.2,0.4) D7(0.2,0.4) D8(0.6,0.4) D9(1,0.4) E2(-1.8,0) E3(-1.4,0) E4(-1,0) E9(1,0) F2(-1.8,-0.4) F3(-1.4,-0.4) F4(-1,-0.4) F5(-0.6,-0.4) F6(-0.2,-0.4) F7(0.2,-0.4) F8(0.6,-0.4) G1(-2.2,-0.8) G2(-1.8,-0.8) G3(-1.4,-0.8) G4(-1,-0.8) G5(-0.6,-0.8) G6(-0.2,-0.8) G7(0.2,-0.8) G8(0.6,-0.8) H1(-2.2,-1.2) H2(-1.8,-1.2) H3(-1.4,-1.2) H4(-1,-1.2) H5(-0.6,-1.2) H6(-0.2,-1.2) J1(-2.2,-1.6) J2(-1.8,-1.6) J3(-1.4,-1.6) J4(-1,-1.6) J5(-0.6,-1.6) J6(-0.2,-1.6)
  rrect100% 0.19x0.23 smd mask+0.038: A2(-1.8,1.6) A3(-1.4,1.6) A4(-1,1.6) A5(-0.6,1.6) A6(-0.2,1.6) A7(0.2,1.6) A8(0.6,1.6) A9(1,1.6) B3(-1.4,1.2) B4(-1,1.2) C3(-1.4,0.8) C4(-1,0.8) F9(1,-0.4) F10(1.4,-0.4) G9(1,-0.8) G10(1.4,-0.8) H7(0.2,-1.2) H8(0.6,-1.2) H9(1,-1.2) H10(1.4,-1.2) J7(0.2,-1.6) J8(0.6,-1.6) J9(1,-1.6) J10(1.4,-1.6)
  rrect100% 0.23x0.19 smd mask+0.038: A11(1.8,1.6) A12(2.2,1.6) B9(1,1.2) B10(1.4,1.2) B11(1.8,1.2) B12(2.2,1.2) C9(1,0.8) C10(1.4,0.8) C11(1.8,0.8) C12(2.2,0.8) D10(1.4,0.4) D11(1.8,0.4) D12(2.2,0.4) E1(-2.2,0) E10(1.4,0) E11(1.8,0) E12(2.2,0) F1(-2.2,-0.4) F11(1.8,-0.4) F12(2.2,-0.4) G11(1.8,-0.8) G12(2.2,-0.8) H11(1.8,-1.2) H12(2.2,-1.2) J11(1.8,-1.6) J12(2.2,-1.6)
Top Overlay:
  circle w0.2: c-2.794,2.286 r0.1
  lines w0.127: -2.65,-2.15 -2.65,2.15 2.65,2.15 2.65,-2.15 -2.65,-2.15
Top Solder:
  circle w0: c-1.8,1.6 r0.123
  circle w0: c-1.8,1.2 r0.123
  circle w0: c-1.8,0.8 r0.123
  circle w0: c-1.8,0.4 r0.123
  circle w0: c-1.8,0 r0.123
  circle w0: c-1.8,-0.4 r0.123
  circle w0: c-1.8,-0.8 r0.123
  circle w0: c-1.8,-1.2 r0.123
  circle w0: c-1.8,-1.6 r0.123
  circle w0: c-1.4,1.6 r0.123
  circle w0: c-1.4,1.2 r0.123
  circle w0: c-1.4,0.8 r0.123
  circle w0: c-1.4,0.4 r0.123
  circle w0: c-1.4,0 r0.123
  circle w0: c-1.4,-0.4 r0.123
  circle w0: c-1.4,-0.8 r0.123
  circle w0: c-1.4,-1.2 r0.123
  circle w0: c-1.4,-1.6 r0.123
  circle w0: c-1,1.6 r0.123
  circle w0: c-1,1.2 r0.123
  circle w0: c-1,0.8 r0.123
  circle w0: c-1,0.4 r0.123
  circle w0: c-1,0 r0.123
  circle w0: c-1,-0.4 r0.123
  circle w0: c-1,-0.8 r0.123
  circle w0: c-1,-1.2 r0.123
  circle w0: c-1,-1.6 r0.123
  circle w0: c-0.6,1.6 r0.123
  circle w0: c-0.6,1.2 r0.123
  circle w0: c-0.6,0.8 r0.123
  circle w0: c-0.6,0.4 r0.123
  circle w0: c-0.6,-0.4 r0.123
  circle w0: c-0.6,-0.8 r0.123
  circle w0: c-0.6,-1.2 r0.123
  circle w0: c-0.6,-1.6 r0.123
  circle w0: c-0.2,1.6 r0.123
  circle w0: c-0.2,1.2 r0.123
  circle w0: c-0.2,0.8 r0.123
  circle w0: c-0.2,0.4 r0.123
  circle w0: c-0.2,-0.4 r0.123
  circle w0: c-0.2,-0.8 r0.123
  circle w0: c-0.2,-1.2 r0.123
  circle w0: c-0.2,-1.6 r0.123
  circle w0: c0.2,1.6 r0.123
  circle w0: c0.2,1.2 r0.123
  circle w0: c0.2,0.8 r0.123
  circle w0: c0.2,0.4 r0.123
  circle w0: c0.2,-0.4 r0.123
  circle w0: c0.2,-0.8 r0.123
  circle w0: c0.2,-1.2 r0.123
  circle w0: c0.2,-1.6 r0.123
  circle w0: c0.6,1.6 r0.123
  circle w0: c0.6,1.2 r0.123
  circle w0: c0.6,0.8 r0.123
  circle w0: c0.6,0.4 r0.123
  circle w0: c0.6,-0.4 r0.123
  circle w0: c0.6,-0.8 r0.123
  circle w0: c0.6,-1.2 r0.123
  circle w0: c0.6,-1.6 r0.123
  circle w0: c1,1.6 r0.123
  circle w0: c1,1.2 r0.123
  circle w0: c1,0.8 r0.123
  circle w0: c1,0.4 r0.123
  circle w0: c1,0 r0.123
  circle w0: c1,-0.4 r0.123
  circle w0: c1,-0.8 r0.123
  circle w0: c1,-1.2 r0.123
  circle w0: c1,-1.6 r0.123
  circle w0: c1.4,1.6 r0.123
  circle w0: c1.4,1.2 r0.123
  circle w0: c1.4,0.8 r0.123
  circle w0: c1.4,0.4 r0.123
  circle w0: c1.4,0 r0.123
  circle w0: c1.4,-0.4 r0.123
  circle w0: c1.4,-0.8 r0.123
  circle w0: c1.4,-1.2 r0.123
  circle w0: c1.4,-1.6 r0.123
  circle w0: c1.8,1.6 r0.123
  circle w0: c1.8,1.2 r0.123
  circle w0: c1.8,0.8 r0.123
  circle w0: c1.8,0.4 r0.123
  circle w0: c1.8,0 r0.123
  circle w0: c1.8,-0.4 r0.123
  circle w0: c1.8,-0.8 r0.123
  circle w0: c1.8,-1.2 r0.123
  circle w0: c1.8,-1.6 r0.123
  circle w0: c2.2,1.6 r0.123
  circle w0: c2.2,1.2 r0.123
  circle w0: c2.2,0.8 r0.123
  circle w0: c2.2,0.4 r0.123
  circle w0: c2.2,0 r0.123
  circle w0: c2.2,-0.4 r0.123
  circle w0: c2.2,-0.8 r0.123
  circle w0: c2.2,-1.2 r0.123
  circle w0: c2.2,-1.6 r0.123
  circle w0: c-2.2,1.6 r0.123
  circle w0: c-2.2,1.2 r0.123
  circle w0: c-2.2,0.8 r0.123
  circle w0: c-2.2,0.4 r0.123
  circle w0: c-2.2,0 r0.123
  circle w0: c-2.2,-0.4 r0.123
  circle w0: c-2.2,-0.8 r0.123
  circle w0: c-2.2,-1.2 r0.123
  circle w0: c-2.2,-1.6 r0.123

## BGA-104-5.3X4.3MM - Sprite-mixed-0.2-0.19 [mm] "BGA-104-5.3X4.3MM"
pads (104):
  rrect100% 0.2x0.2 smd mask+0.038: A1(-2.2,1.6) A10(1.4,1.6) B1(-2.2,1.2) B2(-1.8,1.2) B5(-0.6,1.2) B6(-0.2,1.2) B7(0.2,1.2) B8(0.6,1.2) C1(-2.2,0.8) C2(-1.8,0.8) C5(-0.6,0.8) C6(-0.2,0.8) C7(0.2,0.8) C8(0.6,0.8) D1(-2.2,0.4) D2(-1.8,0.4) D3(-1.4,0.4) D4(-1,0.4) D5(-0.6,0.4) D6(-0.2,0.4) D7(0.2,0.4) D8(0.6,0.4) D9(1,0.4) E2(-1.8,0) E3(-1.4,0) E4(-1,0) E9(1,0) F2(-1.8,-0.4) F3(-1.4,-0.4) F4(-1,-0.4) F5(-0.6,-0.4) F6(-0.2,-0.4) F7(0.2,-0.4) F8(0.6,-0.4) G1(-2.2,-0.8) G2(-1.8,-0.8) G3(-1.4,-0.8) G4(-1,-0.8) G5(-0.6,-0.8) G6(-0.2,-0.8) G7(0.2,-0.8) G8(0.6,-0.8) H1(-2.2,-1.2) H2(-1.8,-1.2) H3(-1.4,-1.2) H4(-1,-1.2) H5(-0.6,-1.2) H6(-0.2,-1.2) J1(-2.2,-1.6) J2(-1.8,-1.6) J3(-1.4,-1.6) J4(-1,-1.6) J5(-0.6,-1.6) J6(-0.2,-1.6)
  rrect100% 0.19x0.2 smd mask+0.038: A2(-1.8,1.6) A3(-1.4,1.6) A4(-1,1.6) A5(-0.6,1.6) A6(-0.2,1.6) A7(0.2,1.6) A8(0.6,1.6) A9(1,1.6) B3(-1.4,1.2) B4(-1,1.2) C3(-1.4,0.8) C4(-1,0.8) F9(1,-0.4) F10(1.4,-0.4) G9(1,-0.8) G10(1.4,-0.8) H7(0.2,-1.2) H8(0.6,-1.2) H9(1,-1.2) H10(1.4,-1.2) J7(0.2,-1.6) J8(0.6,-1.6) J9(1,-1.6) J10(1.4,-1.6)
  rrect100% 0.2x0.19 smd mask+0.038: A11(1.8,1.6) A12(2.2,1.6) B9(1,1.2) B10(1.4,1.2) B11(1.8,1.2) B12(2.2,1.2) C9(1,0.8) C10(1.4,0.8) C11(1.8,0.8) C12(2.2,0.8) D10(1.4,0.4) D11(1.8,0.4) D12(2.2,0.4) E1(-2.2,0) E10(1.4,0) E11(1.8,0) E12(2.2,0) F1(-2.2,-0.4) F11(1.8,-0.4) F12(2.2,-0.4) G11(1.8,-0.8) G12(2.2,-0.8) H11(1.8,-1.2) H12(2.2,-1.2) J11(1.8,-1.6) J12(2.2,-1.6)
Top Overlay:
  circle w0.2: c-2.794,2.286 r0.1
  lines w0.127: -2.65,-2.15 -2.65,2.15 2.65,2.15 2.65,-2.15 -2.65,-2.15

## BGA-104-5.3X4.3MM - Sprite-mixed-0.2-0.19 - 3DModel [mm] "BGA-104-5.3X4.3MM"
pads (104):
  rrect100% 0.2x0.2 smd mask+0.038: A1(-2.2,1.6) A10(1.4,1.6) B1(-2.2,1.2) B2(-1.8,1.2) B5(-0.6,1.2) B6(-0.2,1.2) B7(0.2,1.2) B8(0.6,1.2) C1(-2.2,0.8) C2(-1.8,0.8) C5(-0.6,0.8) C6(-0.2,0.8) C7(0.2,0.8) C8(0.6,0.8) D1(-2.2,0.4) D2(-1.8,0.4) D3(-1.4,0.4) D4(-1,0.4) D5(-0.6,0.4) D6(-0.2,0.4) D7(0.2,0.4) D8(0.6,0.4) D9(1,0.4) E2(-1.8,0) E3(-1.4,0) E4(-1,0) E9(1,0) F2(-1.8,-0.4) F3(-1.4,-0.4) F4(-1,-0.4) F5(-0.6,-0.4) F6(-0.2,-0.4) F7(0.2,-0.4) F8(0.6,-0.4) G1(-2.2,-0.8) G2(-1.8,-0.8) G3(-1.4,-0.8) G4(-1,-0.8) G5(-0.6,-0.8) G6(-0.2,-0.8) G7(0.2,-0.8) G8(0.6,-0.8) H1(-2.2,-1.2) H2(-1.8,-1.2) H3(-1.4,-1.2) H4(-1,-1.2) H5(-0.6,-1.2) H6(-0.2,-1.2) J1(-2.2,-1.6) J2(-1.8,-1.6) J3(-1.4,-1.6) J4(-1,-1.6) J5(-0.6,-1.6) J6(-0.2,-1.6)
  rrect100% 0.19x0.2 smd mask+0.038: A2(-1.8,1.6) A3(-1.4,1.6) A4(-1,1.6) A5(-0.6,1.6) A6(-0.2,1.6) A7(0.2,1.6) A8(0.6,1.6) A9(1,1.6) B3(-1.4,1.2) B4(-1,1.2) C3(-1.4,0.8) C4(-1,0.8) F9(1,-0.4) F10(1.4,-0.4) G9(1,-0.8) G10(1.4,-0.8) H7(0.2,-1.2) H8(0.6,-1.2) H9(1,-1.2) H10(1.4,-1.2) J7(0.2,-1.6) J8(0.6,-1.6) J9(1,-1.6) J10(1.4,-1.6)
  rrect100% 0.2x0.19 smd mask+0.038: A11(1.8,1.6) A12(2.2,1.6) B9(1,1.2) B10(1.4,1.2) B11(1.8,1.2) B12(2.2,1.2) C9(1,0.8) C10(1.4,0.8) C11(1.8,0.8) C12(2.2,0.8) D10(1.4,0.4) D11(1.8,0.4) D12(2.2,0.4) E1(-2.2,0) E10(1.4,0) E11(1.8,0) E12(2.2,0) F1(-2.2,-0.4) F11(1.8,-0.4) F12(2.2,-0.4) G11(1.8,-0.8) G12(2.2,-0.8) H11(1.8,-1.2) H12(2.2,-1.2) J11(1.8,-1.6) J12(2.2,-1.6)
Top Overlay:
  circle w0.2: c-2.794,2.286 r0.1
  lines w0.127: -2.65,-2.15 -2.65,2.15 2.65,2.15 2.65,-2.15 -2.65,-2.15
3D body "BGA104C40P12X9_530X430X80.step": height 0.8, standoff 0, extent -2.65,-2.15 2.65,2.15

## CAPC1005X06L [mm] "Chip Capacitor, 2-Leads, Body 1.00x0.50mm, IPC High Density"
height 0.6
pads (2):
  rect 0.56x0.52 smd: 1(-0.39,0) 2(0.39,0)
Top 3D Body (Mech13):
  lines w0.1: -0.525,-0.275 0.525,-0.275 0.525,0.275 -0.525,0.275 -0.525,-0.275
Mechanical 15:
  lines w0.05: -0.8,-0.4 0.8,-0.4 0.8,0.4 -0.8,0.4 -0.8,-0.4
  lines w0.1: -0.275,0 0.275,0 ; 0,-0.275 0,0.275
3D body "CAPC1005X06L.step": height 0.6, standoff 0, extent -0.525,-0.275 0.525,0.275

## CREATIVE_COMMONS [mm] "CREATIVE_COMMONS"
Top Component Outline (Mech3):
  text "Designed by:" at 11.43,0 h1.51
  text "https://creativecommons.org/licenses/by-sa/4.0/" at 0,2.54 h1.51
  text "Released under the Creative Commons Attribution Share-Alike 4.0 License" at -20.32,5.08 h1.51